# Altium footprint library STM32F4DISCOVERY.PcbLib: 29 footprints (part 2 of 2)
Each footprint in its own frame and in the unit in brackets; x right, y up, seen from the top. Pads: shape width x height; smd on the part's side, far side on the other; paste and mask are expansions set on the pad; w line width, h text height; cw(c..) or ccw(c..) is an arc to the next point about the centre after c.
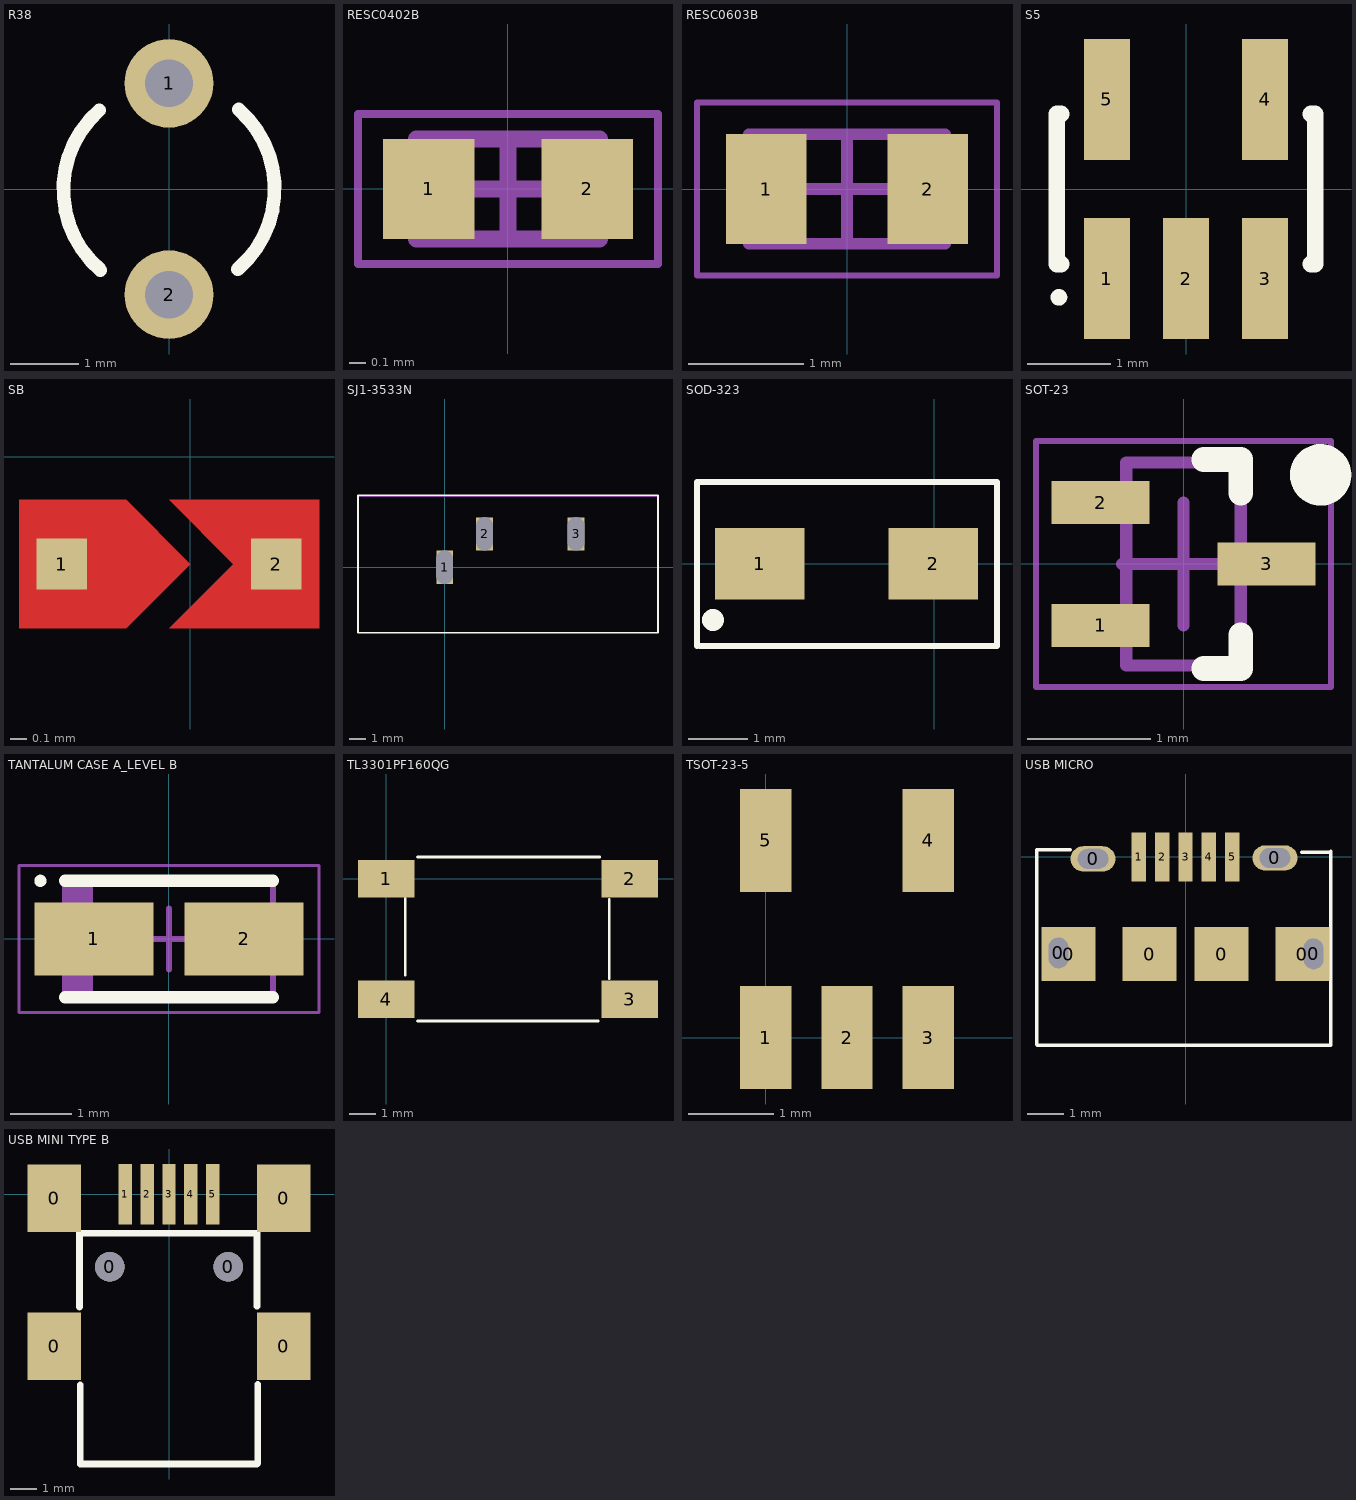
[diagram p1: the footprints below, top view; thin cyan lines are the x and y axes]

## R38 [mm]
pads (2):
  round 1.3 hole 0.7: 1(0,1.55) 2(0,-1.55)
Top Overlay:
  lines w0.2: -1.022,1.155 ccw(c0,-0.01) -1.006,-1.189 ; 1.006,-1.179 ccw(c0,0) 1.022,1.165

## RESC0402B [mm]
pads (2):
  rect 0.55x0.6 smd: 1(-0.475,0) 2(0.475,0)
Mechanical 13:
  lines w0.1: -0.55,-0.3 -0.55,0.3 0.55,0.3 0.55,-0.3 -0.55,-0.3
Mechanical 15:
  lines w0.05: -0.9,-0.45 -0.9,0.45 0.9,0.45 0.9,-0.45 -0.9,-0.45
  lines w0.1: -0.3,0 0.3,0 ; 0,-0.3 0,0.3
3D body "RESC0402B.step": height 0.4, standoff 0, extent -0.55,-0.3 0.55,0.3

## RESC0603B [mm]
pads (2):
  rect 0.7x0.95 smd: 1(-0.7,0) 2(0.7,0)
Mechanical 13:
  lines w0.1: -0.85,-0.475 -0.85,0.475 0.85,0.475 0.85,-0.475 -0.85,-0.475
Mechanical 15:
  lines w0.05: -1.3,-0.75 -1.3,0.75 1.3,0.75 1.3,-0.75 -1.3,-0.75
  lines w0.1: -0.475,0 0.475,0 ; 0,-0.475 0,0.475
3D body "RESC0603B.step": height 0.6, standoff 0, extent -0.85,-0.475 0.85,0.475

## S5 [mm]
pads (5):
  rect 0.55x1.45 smd: 1(-0.95,-1.075) 2(0,-1.075) 3(0.95,-1.075) 4(0.95,1.075) 5(-0.95,1.075)
Top Overlay:
  circle w0.1: c-1.525,-1.3 r0.05
  lines w0.2: -1.5,-0.9 -1.55,-0.9 -1.55,0.9 -1.5,0.9 ; 1.5,-0.9 1.55,-0.9 1.55,0.9 1.5,0.9

## SB [mm]
pads (2):
  rect 0.3x0.3 smd: 1(-0.762,-0.635) 2(0.508,-0.635)
Top Layer:
  region: -1.016,-0.254 -0.381,-0.254 0,-0.635 -0.381,-1.016 -1.016,-1.016
  region: -0.127,-0.254 0.254,-0.635 -0.127,-1.016 0.762,-1.016 0.762,-0.254

## SJ1-3533N [mm]
pads (3):
  rect 1x2 hole 1 slot 2 at 90 deg: 1(0,0) 2(2.4,2) 3(7.9,2)
Top Overlay:
  lines w0.1: -5.207,-3.937 12.827,-3.937 12.827,4.318 -5.207,4.318 -5.207,-3.937
Mechanical 1:
  lines w0.1: -5.19,4.263 12.81,4.263
3D body "sj1-3533n.stp": height 11.8, standoff -3.8, extent -5.19,-3.937 12.81,4.263

## SOD-323 [mm]
pads (2):
  rect 1.5x1.2 smd: 1(-2.921,0) 2(-0.021,0)
Top Overlay:
  circle w0.254: c-3.708,-0.94 r0.057
  lines w0.1: -3.976,-1.374 -3.976,1.372 1.041,1.372 1.051,1.372 1.051,-1.375 -3.937,-1.375
3D body "User Library-SOD2513X11.STEP": height 1.1, standoff 0, extent -2.823,-0.625 -0.123,0.625

## SOT-23 [mm]
pads (3):
  rect 0.8x0.35 smd: 1(-0.675,-0.5) 2(-0.675,0.5) 3(0.675,0)
Top Overlay:
  circle w0.25: c1.115,0.725 r0.125
  lines w0.2: 0.165,-0.85 0.465,-0.85 0.465,-0.575 ; 0.165,0.85 0.465,0.85 0.465,0.575
Mechanical 13:
  lines w0.1: -0.465,-0.825 0.465,-0.825 0.465,0.825 -0.465,0.825 -0.465,-0.825
Mechanical 15:
  lines w0.05: -1.2,-1 1.2,-1 1.2,1 -1.2,1 -1.2,-1
  lines w0.1: -0.5,0 0.5,0 ; 0,-0.5 0,0.5
3D body "SOT-23.step": height 0.73, standoff 0, extent -0.8,-0.823 0.8,0.823

## TANTALUM CASE A_LEVEL B [mm]
pads (2):
  rect 1.95x1.2 smd: 1(-1.225,0) 2(1.225,0)
Top Overlay:
  circle w0.1: c-2.1,0.95 r0.05
  lines w0.2: -1.7,-0.95 1.7,-0.95 ; -1.7,0.95 1.7,0.95
Mechanical 13:
  rectangle: -1.7,-0.9 -1.243,0.9
  lines w0.1: -1.7,-0.9 1.7,-0.9 1.7,0.9 -1.7,0.9 -1.7,-0.9
Mechanical 15:
  lines w0.05: -2.45,-1.2 2.45,-1.2 2.45,1.2 -2.45,1.2 -2.45,-1.2
  lines w0.1: -0.5,0 0.5,0 ; 0,-0.5 0,0.5
3D body "User Library-CAP_TANT_3216-18_A_case.STEP": height 1.8, standoff 0, extent -1.7,-1.103 1.7,0.697

## TL3301PF160QG [mm]
pads (4):
  rect 2.1x1.4 smd: 1(0,0) 2(9.1,0) 3(9.1,-4.5) 4(0,-4.5)
Top Overlay:
  lines w0.1: 0.711,-3.607 0.711,-0.737 ; 1.168,-5.309 7.925,-5.309 ; 1.168,0.813 7.976,0.813 ; 8.331,-3.734 8.331,-0.762
3D body "TL3301PFxxxxG.stp": height 8.62, standoff 0.02, extent -0.53,-5.311 9.471,0.689

## TSOT-23-5 [mm]
pads (5):
  rect 0.6x1.2 smd: 1(0,0) 2(0.95,0) 3(1.9,0) 4(1.9,2.3) 5(0,2.3)
3D body "SW3dPS-TSOT23-5.STEP": height 0.94, standoff -0.02, extent -0.487,-0.557 2.413,2.64

## USB MICRO [mm]
pads (13):
  oval 0.7x1.25 hole 0.55 slot 0.85 at 90.55 deg: 0(-3.531,-2.667) 0(3.556,-2.692)
  rect 1.5x1.5 all layers, no hole: 0(-3.25,-2.7) 0(-1,-2.7) 0(1,-2.7) 0(3.25,-2.7)
  oval 1.25x0.7 hole 0.55 slot 0.85 at 0.55 deg: 0(-2.57,-0.051) 0(2.485,-0.025)
  rect 0.4x1.35 smd: 1(-1.3,0) 2(-0.65,0) 3(0,0) 4(0.65,0) 5(1.3,0)
Top Overlay:
  lines w0.1: -3.2,0.203 -4.14,0.203 -4.14,-5.207 -4.115,-5.232 4.039,-5.232 4.039,0.152 4.013,0.127 3.226,0.127
3D body "User Library-MicroUSB-B_Molex_105017-0001.STEP": height 2.48, standoff -0.82, extent -4.151,-5.244 4.049,0.186

## USB MINI TYPE B [mm]
pads (11):
  rect 2x2.5 smd: 0(-4.267,-5.652) 0(-4.267,-0.152) 0(4.267,-5.652) 0(4.267,-0.152)
  round 1.1 hole 1.1: 0(-2.2,-2.7) 0(2.2,-2.7)
  rect 0.5x2.25 smd: 1(-1.626,0) 2(-0.813,0) 3(0,0) 4(0.813,0) 5(1.626,0)
Top Overlay:
  lines w0.254: -3.327,-4.191 -3.327,-1.473 ; -3.327,-1.448 3.251,-1.448 ; -3.302,-7.092 -3.302,-10.033 3.277,-10.033 3.302,-10.008 3.302,-7.067 ; 3.277,-4.166 3.277,-1.448
3D body "1-1734035-1.stp": height 4.14, standoff -0.95, extent -5.131,-8.181 4.769,1.019